# EAGLE library part 2N7002DW (library Deegou_Discrete)
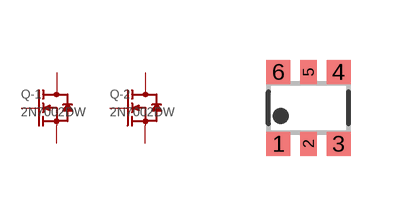
[diagram p2: symbol with the pads of SOT363; footprint SOT363]

Designator prefix Q; gates -1=N-MOS -2=N-MOS

## 2N7002DW  [SOT363]
1  -2:S  pas
2  -2:G  pas
3  -1:D  pas
4  -1:S  pas
5  -1:G  pas
6  -2:D  pas

## Footprint SOT363 (pad centres in mm)
SOT363 Plastic surface-mounted package; 6 leads JEDEC: -- IEC: -- JEITA: SC-88
smd 0.6 x 0.6: 1 -0.75,-0.9; 3 0.75,-0.9; 4 0.75,0.9; 6 -0.75,0.9
smd 0.4 x 0.6: 2 0,-0.9; 5 0,0.9